# EAGLE library part OLED_I2C (library oled)
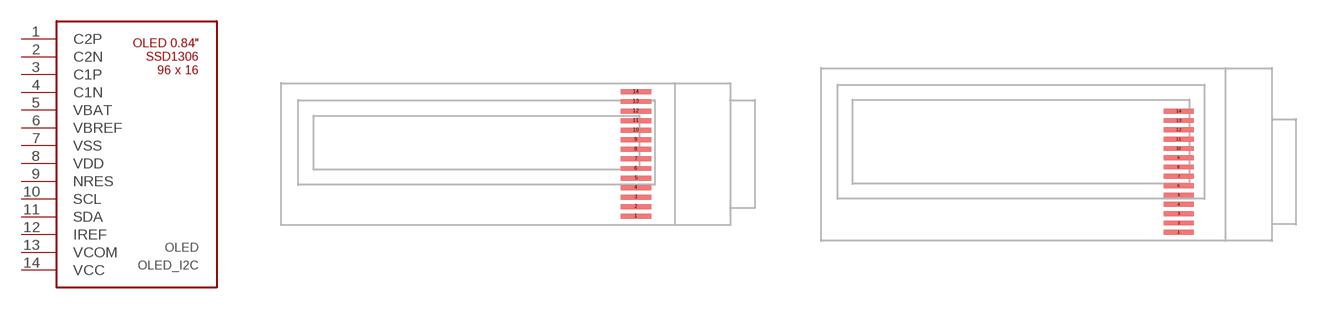
[diagram p1: symbol with the pads of OLED_I2C_084; footprints OLED_I2C_084, OLED_I2C_091]

Designator prefix OLED

## OLED_I2C_084  [OLED_I2C_084]
1  C2P  pas
2  C2N  pas
3  C1P  pas
4  C1N  pas
5  VBAT  pwr
6  VBREF  pas
7  VSS  pwr
8  VDD  pwr
9  NRES  in
10  SCL  in
11  SDA  in
12  IREF  pas
13  VCOM  pas
14  VCC  pwr

## OLED_I2C_091  [OLED_I2C_091]
Pads as for OLED_I2C_084

## Footprint OLED_I2C_084 (pad centres in mm)
smd 2 x 0.32: 1 0,-4.03; 2 0,-3.41; 3 0,-2.79; 4 0,-2.17; 5 0,-1.55; 6 0,-0.93; 7 0,-0.31; 8 0,0.31; 9 0,0.93; 10 0,1.55; 11 0,2.17; 12 0,2.79; 13 0,3.41; 14 0,4.03

## Footprint OLED_I2C_091 (pad centres in mm)
smd 2 x 0.32: 1 0,-4.03; 2 0,-3.41; 3 0,-2.79; 4 0,-2.17; 5 0,-1.55; 6 0,-0.93; 7 0,-0.31; 8 0,0.31; 9 0,0.93; 10 0,1.55; 11 0,2.17; 12 0,2.79; 13 0,3.41; 14 0,4.03